# Altium footprint library USB_SPI_Flash.PcbLib: 2 footprints
Each footprint in its own frame and in the unit in brackets; x right, y up, seen from the top. Pads: shape width x height; smd on the part's side, far side on the other; paste and mask are expansions set on the pad; w line width, h text height; cw(c..) or ccw(c..) is an arc to the next point about the centre after c.
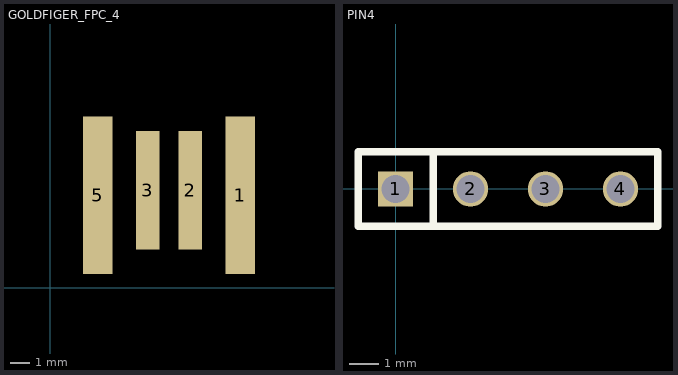
[diagram p0: the footprints below, top view; thin cyan lines are the x and y axes]

## GOLDFIGER_FPC_4 [mm]
pads (4):
  rect 1.5x8 smd: 1(9.652,4.699) 5(2.413,4.699)
  rect 1.2x6 smd: 2(7.112,4.953) 3(4.953,4.953)
Drill Guide:
  lines w0.1: 12,10 0,10 0,0 12.065,0 12.065,10.033

## PIN4 [mm]
pads (4):
  rect 1.2x1.2 hole 0.95: 1(0,0)
  round 1.2 hole 0.95: 2(2.54,0) 3(5.08,0) 4(7.62,0)
Top Overlay:
  lines w0.254: 1.27,-1.27 1.27,1.27 ; -1.27,-1.27 8.89,-1.27 8.89,1.27 -1.27,1.27 -1.27,-1.27